# EAGLE library part PCA9546A (library PatternAgents-NXP)
4-channel I2C-bus switch with reset
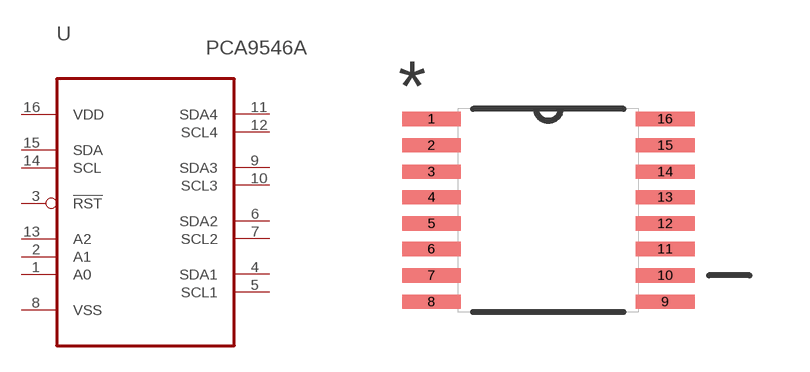
[diagram p4: symbol with the pads of SOP65P640X110-16N; footprint SOP65P640X110-16N]

Designator prefix U

## PCA9546A (MPN: PCA9546APW,112; OC_FARNELL: 1831208; OC_NEWARK: 70R6610; PACKAGE: TSSOP-16; SUPPLIER: NXP)  [SOP65P640X110-16N]
1  A0  in
2  A1  in
3  !RST  in
4  SDA1  in
5  SCL1  in
6  SDA2  in
7  SCL2  in
8  VSS  pas
9  SDA3  in
10  SCL3  in
11  SDA4  in
12  SCL4  in
13  A2  in
14  SCL
15  SDA
16  VDD  pwr

## Footprint SOP65P640X110-16N (pad centres in mm)
smd 1.473 x 0.356: 1 -2.921,2.286; 2 -2.921,1.626; 3 -2.921,0.965; 4 -2.921,0.33; 5 -2.921,-0.33; 6 -2.921,-0.965; 7 -2.921,-1.626; 8 -2.921,-2.286; 9 2.921,-2.286; 10 2.921,-1.626; 11 2.921,-0.965; 12 2.921,-0.33; 13 2.921,0.33; 14 2.921,0.965; 15 2.921,1.626; 16 2.921,2.286